# Altium schematic symbol library Components - 28.08.24 - 16.36.SchLib: 1 symbol
Pins are listed as number, name and electrical type; pins without a type are passive.

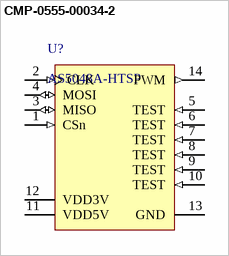
[diagram p0: symbol CMP-0555-00034-2]

## CMP-0555-00034-2
designator U?, comment AS5048A-HTSP
Magnetic Rotary Encoder 14-bit Angular Position Sensor, 3.3 or 5 V, TSSOP-14, Pb-Free, Reel; Manufacturer: AMS; Supply Voltage (V): 3.3 or 5.0; Output: SPI, PWM; ComponentLink2URL: http://www.ams.com/eng/content/download/438523/1341157/143015; Mounting Technology: Surface Mount; PackageDescription: 14-Pin Small Outline Package, 5 x 4.4 mm Body, 0.65 mm Pitch; Resolution: 14-bit; ComponentLink1URL: www.ams.com; DatasheetVersion: Rev. 1.3; Features: SPI, PWM, In System Programmable; PartNumber: AS5048A-HTSP; Code_JEDEC: MO-153; PackageReference: TSSOP-14; PackageVersion: Rev. 2.7, 10/2010; ComponentLink1Description: Manufacturer URL; ComponentLink2Description: Datasheet
footprint AMS-TSSOP-14-5000X4400DE_N (TSOP, 14-Leads, Body 5.00x4.40mm, Pitch 0.65mm, IPC Medium Density)
footprint AMS-TSSOP-14-5000X4400DE_M (TSOP, 14-Leads, Body 5.00x4.40mm, Pitch 0.65mm, IPC Low Density)
footprint AMS-TSSOP-14-5000X4400DE_L (TSOP, 14-Leads, Body 5.00x4.40mm, Pitch 0.65mm, IPC High Density)
pins: 1 CSn (in) "SPI chip select - active low", 2 CLK (in) "SPI clock input", 3 MISO (io) "SPI master in/slave out", 4 MOSI (io) "SPI master out/slave in", 5 TEST (in) "Test pin, see Note", 6 TEST (in) "Test pin, see Note", 7 TEST (in) "Test pin, see Note", 8 TEST (in) "Test pin, see Note", 9 TEST (in) "Test pin, see Note", 10 TEST (in) "Test pin, see Note", 11 VDD5V (power) "Positive Supply Voltage, 3.0 to 5.5 V", 12 VDD3V (power) "3.3V Regulator output; internally regulated from VDD. Connect to VDD for 3V supply voltage. 10FF capacitor to GND required in 5V operation mode", 13 GND (power) "Negative Supply Voltage (GND)", 14 PWM (out) "Pulse Width Modulation output"